# EAGLE library part A2235-H (library FansElectronics-GPS)
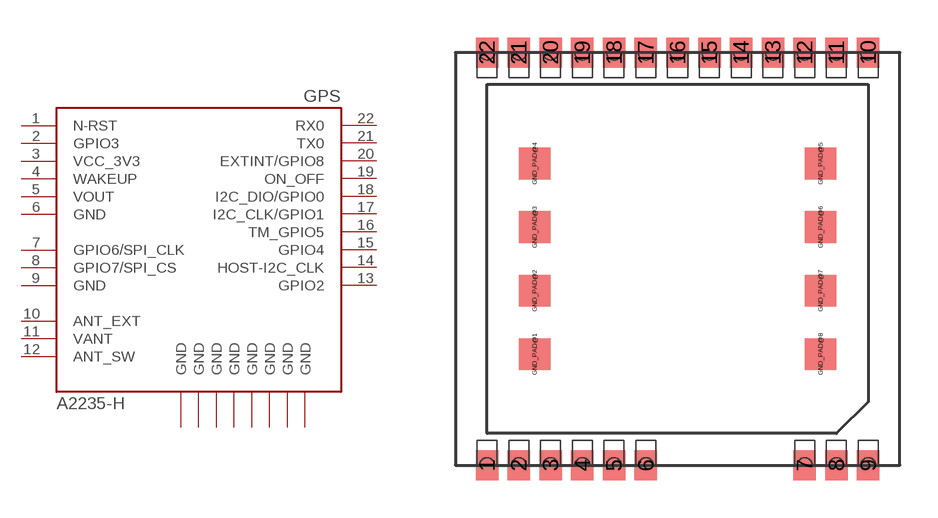
[diagram p0: symbol with the pads of A2235-H; footprint A2235-H]

Designator prefix GPS

## A2235-H  [A2235-H]
1  N-RST  in
2  GPIO3  nc
3  VCC_3V3  pwr
4  WAKEUP  out
5  VOUT  sup
6  GND  pwr
7  GPIO6/SPI_CLK  in
8  GPIO7/SPI_CS  in
9  GND  pwr
10  ANT_EXT  in
11  VANT  pwr
12  ANT_SW  in
13  GPIO2  nc
14  HOST-I2C_CLK  in
15  GPIO4  in
16  TM_GPIO5  out
17  I2C_CLK/GPIO1
18  I2C_DIO/GPIO0
19  ON_OFF  in
20  EXTINT/GPIO8  in
21  TX0  out
22  RX0  in
GND_PAD@1  GND  pwr
GND_PAD@2  GND  pwr
GND_PAD@3  GND  pwr
GND_PAD@4  GND  pwr
GND_PAD@5  GND  pwr
GND_PAD@6  GND  pwr
GND_PAD@7  GND  pwr
GND_PAD@8  GND  pwr

## Footprint A2235-H (pad centres in mm)
smd 0.9 x 1.2: 1 -7.62,-8.89; 2 -6.35,-8.89; 3 -5.08,-8.89; 4 -3.81,-8.89; 5 -2.54,-8.89; 6 -1.27,-8.89; 7 5.08,-8.89; 8 6.35,-8.89; 9 7.62,-8.89; 10 7.62,7.62; 11 6.35,7.62; 12 5.08,7.62; 13 3.81,7.62; 14 2.54,7.62; 15 1.27,7.62; 16 0,7.62; 17 -1.27,7.62; 18 -2.54,7.62; 19 -3.81,7.62; 20 -5.08,7.62; 21 -6.35,7.62; 22 -7.62,7.62
smd 1.27 x 1.27: GND_PAD@1 -5.715,-4.445; GND_PAD@2 -5.715,-1.905; GND_PAD@3 -5.715,0.635; GND_PAD@4 -5.715,3.175; GND_PAD@5 5.715,3.175; GND_PAD@6 5.715,0.635; GND_PAD@7 5.715,-1.905; GND_PAD@8 5.715,-4.445